# Altium footprint library RcCon.PcbLib: 3 footprints
Each footprint in its own frame and in the unit in brackets; x right, y up, seen from the top. Pads: shape width x height; smd on the part's side, far side on the other; paste and mask are expansions set on the pad; w line width, h text height; cw(c..) or ccw(c..) is an arc to the next point about the centre after c.
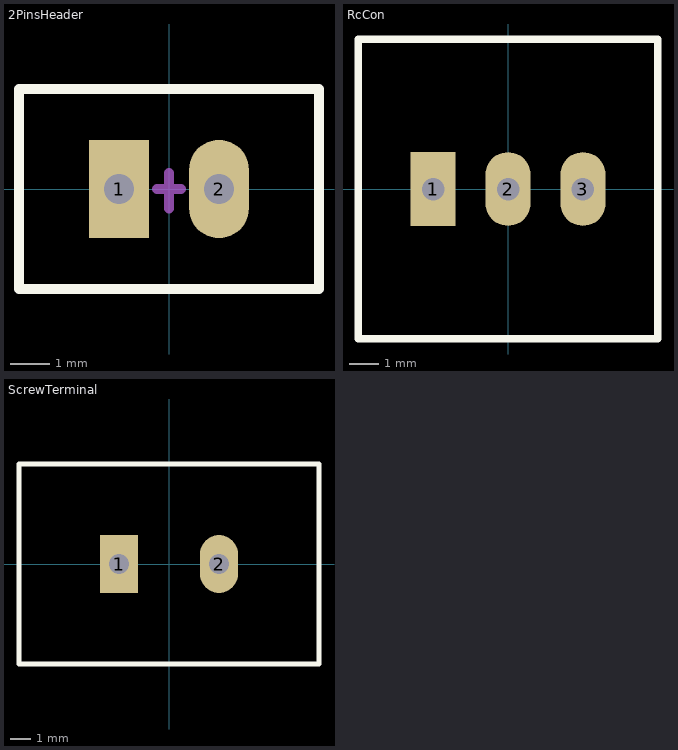
[diagram p0: the footprints below, top view; thin cyan lines are the x and y axes]

## 2PinsHeader [mil]
pads (2):
  rect 60x98.43 hole 30: 1(-50,0)
  oval 60x98.43 hole 30: 2(50,0)
Top Overlay:
  lines w10: -150,-100 -150,0 -150,100 150,100 150,-100 -50,-100 -150,-100
Mechanical 15:
  lines w10: -12.2,0 12.2,0 ; 0,-19.68 0,3.94 0,16.14
3D body "2pin.step": height 237.01, standoff -122.05, extent -101.18,-50.39 98.82,49.61

## RcCon [mil]
pads (3):
  rect 60x98.43 hole 30: 1(-100,0)
  oval 60x98.43 hole 30: 2(0,0) 3(100,0)
Top Overlay:
  lines w10: -200,-200 -200,-100 -200,0 -200,200 200,200 200,-100 200,-200 -200,-200
3D body "User Library-1x3 TH Pitch 2_54mm.SLDPRT": height 373.85, standoff -125.98, extent -150.39,-48.43 149.61,51.57

## ScrewTerminal [mm]
pads (2):
  rect 1.9x2.9 hole 1: 1(-2.5,0)
  oval 1.9x2.9 hole 1: 2(2.5,0)
Top Overlay:
  lines w0.254: -7.5,-5 7.5,-5 7.5,5 -7.5,5 -7.5,-5
3D body "User Library-2 Way PCB Screw Terminal Block 5mm.step": height 15.3, standoff -3.4, extent -4.96,-4.41 5.04,4.59